# Altium schematic symbol library 3404.0014.11.SchLib: 1 symbol
Pins are listed as number, name and electrical type; pins without a type are passive.

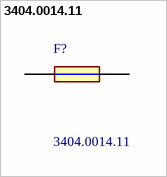
[diagram p0: symbol 3404.0014.11]

## 3404.0014.11
designator F?
Schurter 3A F Surface Mount Fuse, 125 V ac/dc; Geometry.Height: 2.6mm; Manufacturer_Name: SCHURTER; Manufacturer_Part_Number: 3404.0014.11; Mouser Part Number: 693-3404.0014.11; Mouser Price/Stock: https://www.mouser.co.uk/ProductDetail/Schurter/3404001411?qs=8QfiMw8FY5MW%252BuaV2dEayA%3D%3D; Arrow Part Number: 3404.0014.11; Arrow Price/Stock: https://www.arrow.com/en/products/3404.0014.11/schurter?region=europe; Datasheet Link: https://www.schurter.sg/en/datasheet/typ_OMF_125.pdf
footprint FUSM7431X260N
pins: 1, 2